# Altium footprint library HV9006_MEASUREBOARD.PCBLIB: 292 footprints (part 14 of 19)
Each footprint in its own frame and in the unit in brackets; x right, y up, seen from the top. Pads: shape width x height; smd on the part's side, far side on the other; paste and mask are expansions set on the pad; w line width, h text height; cw(c..) or ccw(c..) is an arc to the next point about the centre after c.
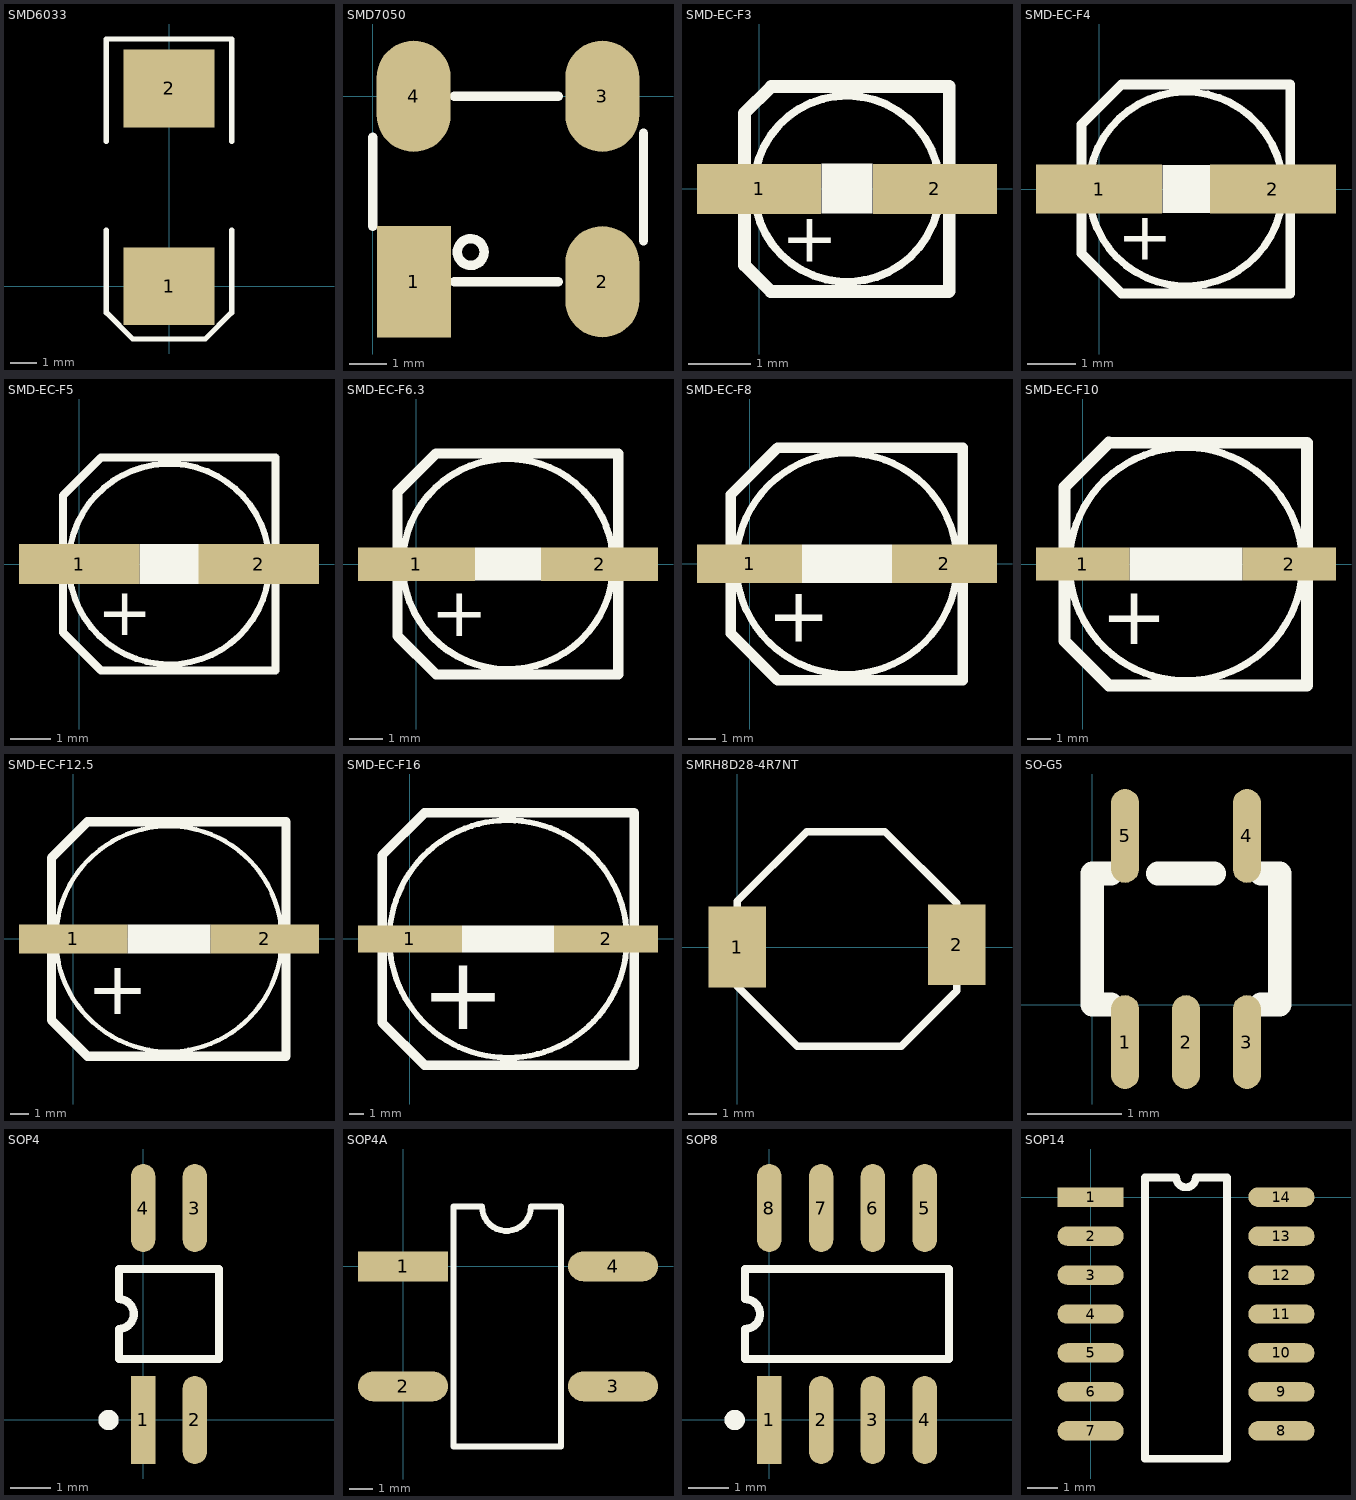
[diagram p13: the footprints below, top view; thin cyan lines are the x and y axes]

## SMD6033 [mm]
pads (2):
  rect 3.5x3 smd: 1(0,0) 2(0,7.62)
Top Overlay:
  lines w0.2: -2.413,9.525 2.413,9.525
  lines w0.203: -2.413,2.159 -2.413,-1.016 -1.397,-2.032 1.397,-2.032 2.413,-1.016 2.413,2.159 ; -2.413,5.588 -2.413,9.525 ; 2.413,5.588 2.413,9.525

## SMD7050 [mm]
pads (4):
  rect 2x3 smd: 1(1.11,-5)
  oval 2x3 smd: 2(6.19,-5) 3(6.19,0) 4(1.1,0)
Top Overlay:
  circle w0.254: c2.639,-4.2 r0.361
  lines w0.254: 0,-3.5 0,-1.1 ; 2.2,-5 5,-5 ; 2.2,0 5,0 ; 7.3,-3.9 7.3,-1

## SMD-EC-F3 [mm]
pads (2):
  rect 2x0.8 smd: 1(0,0) 2(2.835,0)
Top Overlay:
  rectangle: 1.003,-0.399 1.832,0.407
  lines w0.127: 2.777,0.636 ccw(c1.417,0.003) 2.777,0.634
  lines w0.203: 0.19,1.646 -0.234,1.222 -0.234,-1.229 0.19,-1.653 3.059,-1.653 ; 0.195,1.651 3.066,1.651 3.066,-1.647
  text "+" at 0.361,-1.174 h0.8

## SMD-EC-F4 [mm]
pads (2):
  rect 2.6x1 smd: 1(0,0) 2(3.579,0)
Top Overlay:
  rectangle: 1.302,-0.499 2.279,0.5
  lines w0.152: 3.561,0.924 ccw(c1.787,0) 3.562,0.921
  lines w0.203: 3.936,2.151 0.461,2.151 -0.364,1.325 -0.364,-1.324 0.461,-2.15 3.937,-2.15 3.937,2.15
  text "+" at 0.37,-1.46 h1

## SMD-EC-F5 [mm]
pads (2):
  rect 3x1 smd: 1(0,0) 2(4.477,0)
Top Overlay:
  rectangle: 1.5,-0.5 2.981,0.5
  lines w0.152: 4.412,1.239 ccw(c2.241,0) 4.415,1.235
  lines w0.203: 0.217,-2.33 -0.407,-1.706 ; 4.89,2.656 0.542,2.656 0.541,2.655 -0.407,1.707 -0.407,-1.706 ; 4.891,-2.654 0.542,-2.654 0.542,-2.654 -0.407,-1.706 ; 4.892,-2.654 4.892,2.654
  text "+" at 0.445,-1.777 h1.2

## SMD-EC-F6.3 [mm]
pads (2):
  rect 3.5x1 smd: 1(0,0) 2(5.475,0)
Top Overlay:
  rectangle: 1.746,-0.496 3.73,0.5
  lines w0.203: 5.667,1.156 ccw(c2.736,0.002) 5.667,1.154
  lines w0.305: 0.587,-3.303 -0.564,-2.152 -0.564,2.163 0.587,3.314 ; 0.589,-3.305 6.036,-3.305 6.036,3.309 0.592,3.309
  text "+" at 0.43,-2.164 h1.5

## SMD-EC-F8 [mm]
pads (2):
  rect 3.8x1.4 smd: 1(0,0) 2(7.051,0)
Top Overlay:
  rectangle: 1.89,-0.7 5.153,0.7
  lines w0.254: 7.515,0 ccw(c3.515,0) 7.515,0
  lines w0.381: -0.686,2.499 1.013,4.198 ; -0.686,2.499 -0.686,-2.52 1.013,-4.219 7.714,-4.219 7.714,4.198 1.013,4.198 ; -0.686,2.499 1.013,4.198
  text "+" at 0.64,-2.818 h2

## SMD-EC-F10 [mm]
pads (2):
  rect 4x1.4 smd: 1(0,0) 2(8.86,0)
Top Overlay:
  circle w0.305: c4.422,0 r5
  rectangle: 2.006,-0.701 6.849,0.707
  lines w0.508: 1.12,5.203 -0.778,3.306 -0.778,-3.304 1.12,-5.201 9.62,-5.201 9.62,5.2 1.123,5.2
  text "+" at 0.78,-3.44 h2.5

## SMD-EC-F12.5 [mm]
pads (2):
  rect 6x1.6 smd: 1(0,0) 2(10.625,0)
Top Overlay:
  circle w0.254: c5.303,0 r6.25
  rectangle: 3.019,-0.8 7.601,0.8
  lines w0.508: -1.202,-4.498 0.799,-6.499 11.797,-6.499 11.797,6.495 0.799,6.495 0.797,6.493 -1.202,4.494 -1.202,-4.498
  text "+" at 0.75,-4.168 h3

## SMD-EC-F16 [mm]
pads (2):
  rect 7x1.8 smd: 1(0,0) 2(13.215,0)
Top Overlay:
  rectangle: 3.503,-0.9 9.696,0.914
  lines w0.381: 14.301,2.24 ccw(c6.62,0.001) 14.315,2.19
  lines w0.635: 15.122,-8.499 15.123,-8.5 ; 15.122,8.496 15.123,8.497 ; 15.123,-8.5 15.123,8.497 ; 15.123,-8.5 0.981,-8.5 -1.877,-5.642 -1.877,5.638 0.981,8.497 15.123,8.497
  text "+" at 0.729,-6.087 h5

## SMRH8D28-4R7NT [mm]
pads (2):
  rect 2x2.8 smd: 1(0,0) 2(7.6,0.08)
Top Overlay:
  lines w0.254: 0,-1.36 0,1.6 2.4,4 5.12,4 7.6,1.52 7.6,-1.52 7.52,-1.6 5.68,-3.44 2.08,-3.44 0,-1.36

## SO-G5 [mm]
pads (5):
  oval 0.3x1 smd: 1(0.35,-0.4) 2(1,-0.4) 3(1.65,-0.4) 4(1.65,1.8) 5(0.35,1.8)
Top Overlay:
  lines w0.254: 0.2,0 0,0 0,1.4 0.2,1.4 ; 0.7,1.4 1.3,1.4 ; 1.8,0 2,0 2,1.4 1.8,1.4

## SOP4 [mm]
pads (4):
  rect 0.6x2.159 smd: 1(0,0)
  oval 0.6x2.159 smd: 2(1.27,0) 3(1.27,5.2) 4(0,5.2)
Top Overlay:
  circle w0.25: c-0.85,0 r0.125
  lines w0.2: -0.595,2.233 ccw(c-0.595,2.6) -0.595,2.967 -0.595,3.7 1.865,3.7 1.865,1.5 -0.595,1.5 -0.595,2.233

## SOP4A [mm]
pads (4):
  rect 3.81x1.27 smd: 1(0,0)
  oval 3.81x1.27 smd: 2(0,-5.08) 3(8.89,-5.08) 4(8.89,0)
Top Overlay:
  lines w0.254: 2.129,-7.62 6.691,-7.62 6.691,2.54 5.422,2.54 cw(c4.381,2.54) 3.341,2.54 2.129,2.54 2.129,-7.62

## SOP8 [mm]
pads (8):
  rect 0.6x2.159 smd: 1(0,0)
  oval 0.6x2.159 smd: 2(1.27,0) 3(2.54,0) 4(3.81,0) 5(3.81,5.2) 6(2.54,5.2) 7(1.27,5.2) 8(0,5.2)
Top Overlay:
  circle w0.25: c-0.85,0 r0.125
  lines w0.2: -0.595,2.233 ccw(c-0.595,2.6) -0.595,2.967 -0.595,3.7 4.405,3.7 4.405,1.5 -0.595,1.5 -0.595,2.233

## SOP14 [mil]
pads (14):
  rect 85x25 smd: 1(0,0)
  oval 85x25 smd: 2(0,-50) 3(0,-100) 4(0,-150) 5(0,-200) 6(0,-250) 7(0,-300) 8(245,-300) 9(245,-250) 10(245,-200) 11(245,-150) 12(245,-100) 13(245,-50) 14(245,0)
Top Overlay:
  lines w10: 70,-335.63 70,25 110,25 ccw(c122.5,25) 135,25 175,25 175,-335.63 70,-335.63